# Altium footprint library Button And Strip Battery Connector.PcbLib: 1 footprints
Each footprint in its own frame and in the unit in brackets; x right, y up, seen from the top. Pads: shape width x height; smd on the part's side, far side on the other; paste and mask are expansions set on the pad; w line width, h text height; cw(c..) or ccw(c..) is an arc to the next point about the centre after c.
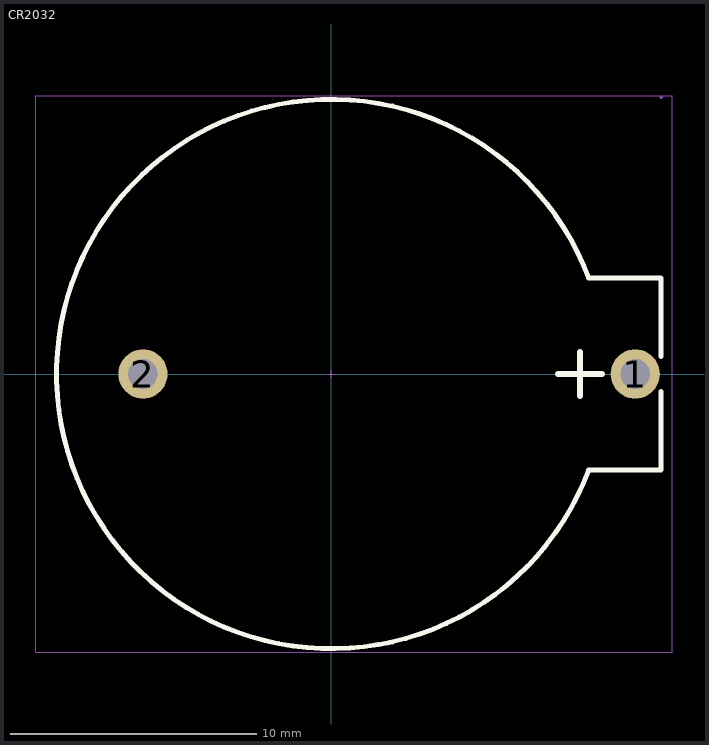
[diagram p0: the footprint, top view; thin cyan lines are the x and y axes]

## CR2032 [mm] "KLS5-CR2032-01 (BH-642) (CH224-2032)"
pads (2):
  round 2 hole 1.2 mask+0.05: 1(12.35,0) 2(-7.65,0)
Top Overlay:
  lines w0.2: 10.454,-3.907 cw(c0,0) 10.457,3.898 ; 10.454,-3.9 13.4,-3.9 13.4,-0.716 ; 10.457,3.9 13.4,3.9 13.4,0.716
  lines w0.254: 9.221,0 10.999,0 ; 10.11,-0.889 10.11,0.889
Top Assembly:
  lines w0.05: 9.221,0 10.999,0 ; 10.11,-0.889 10.11,0.889 ; 10.454,-3.907 cw(c0,0) 10.457,3.898 ; 10.454,-3.9 13.4,-3.9 13.4,-0.716 ; 10.457,3.9 13.4,3.9 13.4,0.716
Top Courtyard:
  region: 13.459,11.24 13.459,11.265 13.424,11.3 13.374,11.3 13.339,11.265 13.339,11.24 13.339,11.215 13.374,11.18 13.424,11.18 13.459,11.215 13.459,11.24
  lines w0.05: -12,-11.3 13.85,-11.3 13.85,11.3 -12,11.3 -12,-11.3
Top Component Center:
  lines w0.05: -0.15,0 0.15,0 ; 0,-0.15 0,0.15
3D body "BH-642.STEP": height 8.5, standoff -4.3, extent -11.15,-11.15 13.15,11.15